# Altium integrated library ERJ1TNF1241U.IntLib: 1 symbol
Pins are listed as number, name and electrical type; pins without a type are passive.

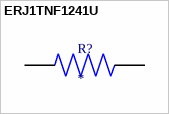
[diagram p0: symbol ERJ1TNF1241U]

## ERJ1TNF1241U
designator R?
MP: ERJ1TNF1241U; Value: *; Availability: Unavailable; Package: None; Price: None
footprint RES_ERJ1TNF1241U
pins: 1, 2